# Altium footprint library Connectors.PcbLib: 86 footprints (part 1 of 6)
Each footprint in its own frame and in the unit in brackets; x right, y up, seen from the top. Pads: shape width x height; smd on the part's side, far side on the other; paste and mask are expansions set on the pad; w line width, h text height; cw(c..) or ccw(c..) is an arc to the next point about the centre after c.
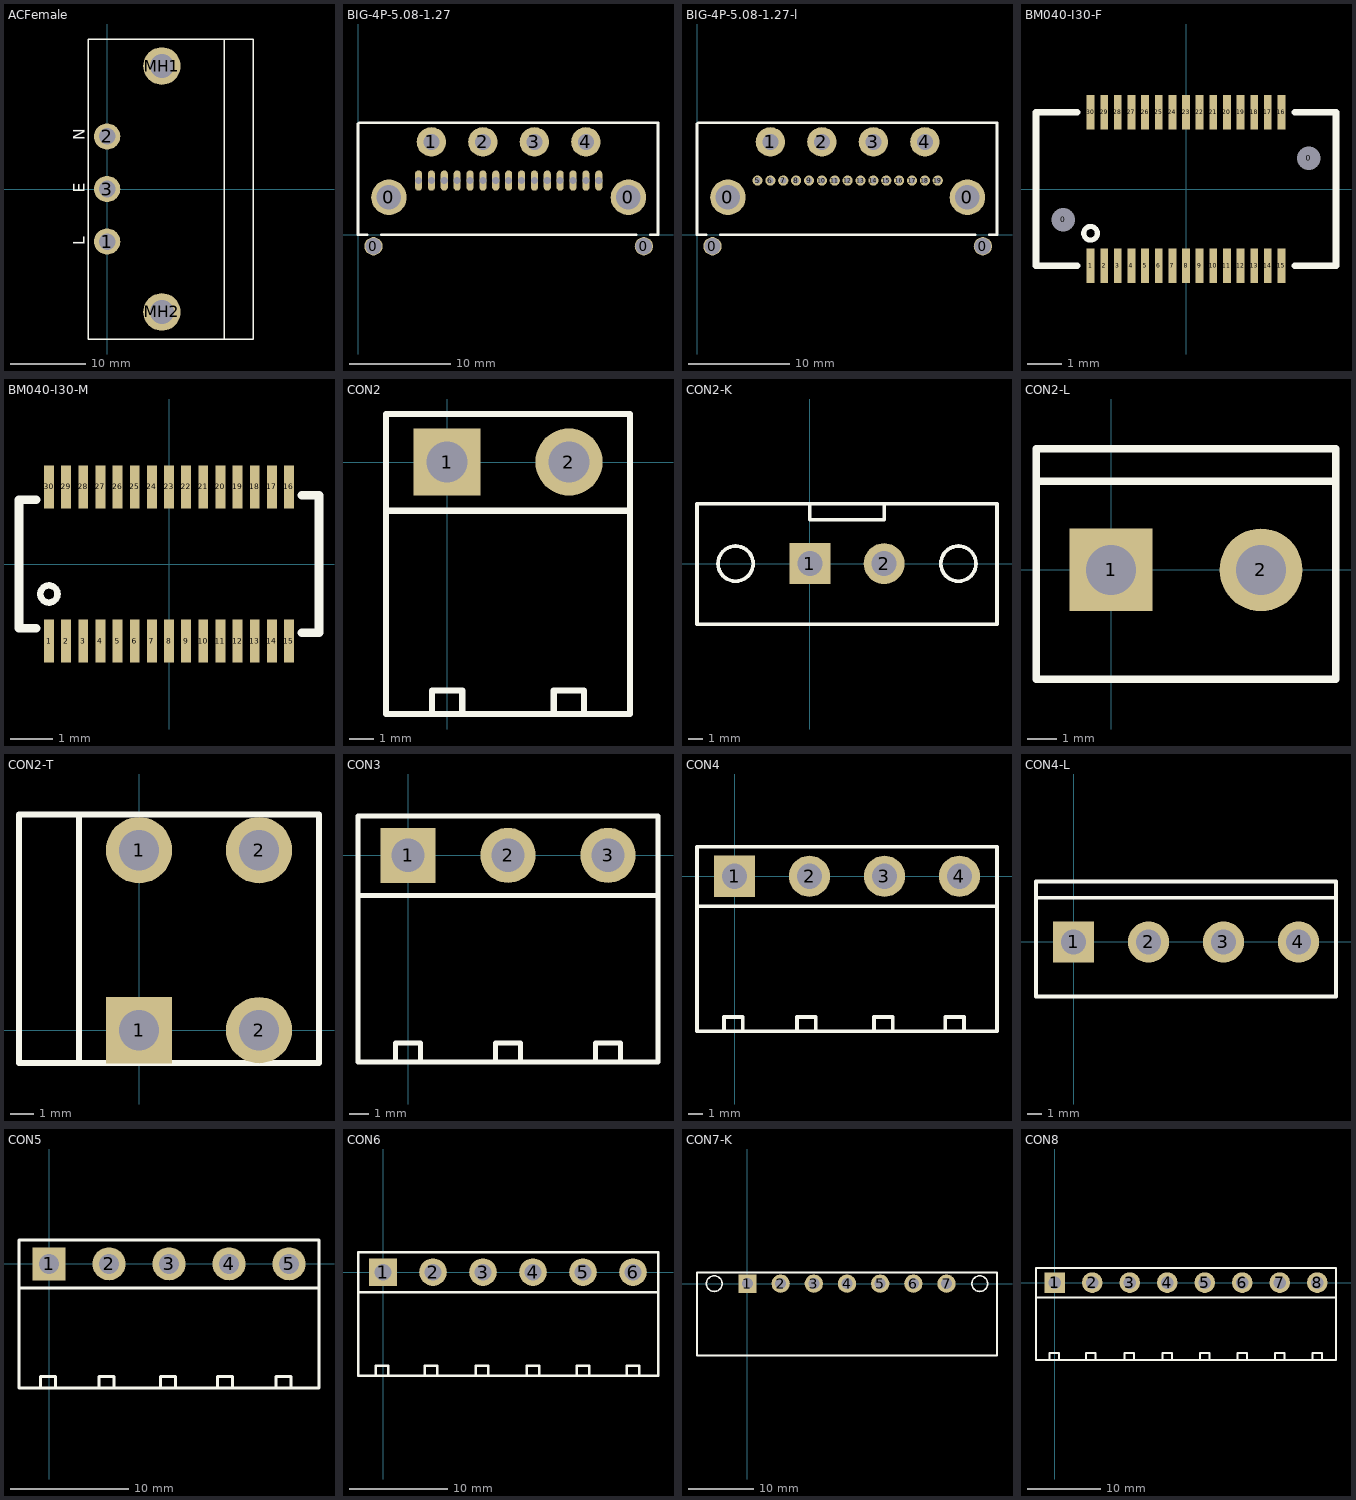
[diagram p0: the footprints below, top view; thin cyan lines are the x and y axes]

## ACFemale [mm] "Plug AC Female"
pads (5):
  round 3.5 hole 2.2: 1(0,-7) 2(0,7) 3(0,0)
  round 5 hole 3.2: MH1(7.3,16.4) MH2(7.3,-16.4)
Top Overlay:
  lines w0.2: 15.6,-20 15.6,20 ; -2.5,-20 19.5,-20 19.5,20 -2.5,20 -2.5,-20
  text "L" at -3,-7.5 h1.5
  text "E" at -3,-0.5 h1.5
  text "N" at -3,6.5 h1.5

## BIG-4P-5.08-1.27 [mm]
height 8
pads (23):
  round 1.8 hole 1.6: 0(1.524,-1.143) 0(28.194,-1.143)
  round 3.5 hole 2.4: 0(3.048,3.683) 0(26.67,3.683)
  round 2.9 hole 1.6: 1(7.239,9.144) 2(12.319,9.144) 3(17.399,9.144) 4(22.479,9.144)
  oval 0.7x2 hole 0.7: 5(5.969,5.334) 6(7.239,5.334) 7(8.509,5.334) 8(9.779,5.334) 9(11.049,5.334) 10(12.319,5.334) 11(13.589,5.334) 12(14.859,5.334) 13(16.129,5.334) 14(17.399,5.334) 15(18.669,5.334) 16(19.939,5.334) 17(21.209,5.334) 18(22.479,5.334) 19(23.749,5.334)
Top Overlay:
  lines w0.254: 0.889,0 0,0 0,10.922 0.127,11.049 29.591,11.049 29.591,0 28.829,0 ; 2.286,0 27.432,0

## BIG-4P-5.08-1.27-l [mm]
height 8
pads (23):
  round 1.8 hole 1.6: 0(1.524,-1.143) 0(28.194,-1.143)
  round 3.5 hole 2.4: 0(3.048,3.683) 0(26.67,3.683)
  round 2.9 hole 1.6: 1(7.239,9.144) 2(12.319,9.144) 3(17.399,9.144) 4(22.479,9.144)
  round 1 hole 0.6: 5(5.969,5.334) 6(7.239,5.334) 7(8.509,5.334) 8(9.779,5.334) 9(11.049,5.334) 10(12.319,5.334) 11(13.589,5.334) 12(14.859,5.334) 13(16.129,5.334) 14(17.399,5.334) 15(18.669,5.334) 16(19.939,5.334) 17(21.209,5.334) 18(22.479,5.334) 19(23.749,5.334)
Top Overlay:
  lines w0.254: 0.889,0 0,0 0,10.922 0.127,11.049 29.591,11.049 29.591,0 28.829,0 ; 2.286,0 27.432,0

## BM040-I30-F [mm] "BM040-I30-F"
pads (32):
  round 0.3 hole 0.7: 0(-3.6,-0.9) 0(3.6,0.9)
  rect 0.23x1 smd: 1(-2.8,-2.25) 2(-2.4,-2.25) 3(-2,-2.25) 4(-1.6,-2.25) 5(-1.2,-2.25) 6(-0.8,-2.25) 7(-0.4,-2.25) 8(0,-2.25) 9(0.4,-2.25) 10(0.8,-2.25) 11(1.2,-2.25) 12(1.6,-2.25) 13(2,-2.25) 14(2.4,-2.25) 15(2.8,-2.25) 16(2.8,2.25) 17(2.4,2.25) 18(2,2.25) 19(1.6,2.25) 20(1.2,2.25) 21(0.8,2.25) 22(0.4,2.25) 23(0,2.25) 24(-0.4,2.25) 25(-0.8,2.25) 26(-1.2,2.25) 27(-1.6,2.25) 28(-2,2.25) 29(-2.4,2.25) 30(-2.8,2.25)
Top Overlay:
  circle w0.15: c-2.8,-1.3 r0.2
  lines w0.2: -3.2,-2.25 -4.4,-2.25 -4.4,2.25 -3.2,2.25 ; 3.2,-2.25 4.4,-2.25 4.4,2.25 3.2,2.25

## BM040-I30-M [mm] "BM040-I30-M"
pads (30):
  rect 0.23x1 smd: 1(-2.8,-1.8) 2(-2.4,-1.8) 3(-2,-1.8) 4(-1.6,-1.8) 5(-1.2,-1.8) 6(-0.8,-1.8) 7(-0.4,-1.8) 8(0,-1.8) 9(0.4,-1.8) 10(0.8,-1.8) 11(1.2,-1.8) 12(1.6,-1.8) 13(2,-1.8) 14(2.4,-1.8) 15(2.8,-1.8) 16(2.8,1.8) 17(2.4,1.8) 18(2,1.8) 19(1.6,1.8) 20(1.2,1.8) 21(0.8,1.8) 22(0.4,1.8) 23(0,1.8) 24(-0.4,1.8) 25(-0.8,1.8) 26(-1.2,1.8) 27(-1.6,1.8) 28(-2,1.8) 29(-2.4,1.8) 30(-2.8,1.8)
Top Overlay:
  circle w0.15: c-2.8,-0.7 r0.2
  lines w0.2: -3.1,-1.5 -3.5,-1.5 -3.5,1.5 -3.1,1.5 ; 3.1,-1.6 3.5,-1.6 3.5,1.6 3.1,1.6

## CON2 [mm] "connector ,2Pin,5.08mm"
pads (2):
  rect 2.8x2.8 hole 1.7: 1(0,0)
  round 2.8 hole 1.7: 2(5.08,0)
Top Overlay:
  lines w0.254: -2.54,-2.032 7.62,-2.032 ; -0.635,-10.5 -0.635,-9.525 0.635,-9.525 0.635,-10.5 ; 4.445,-10.5 4.445,-9.525 5.715,-9.525 5.715,-10.5 ; -2.54,-10.5 7.62,-10.5 7.62,2 -2.54,2 -2.54,-10.5

## CON2-K [mm] "connector ,2Pin,5.08mm"
pads (2):
  rect 2.8x2.8 hole 1.7: 1(0,0)
  round 2.8 hole 1.7: 2(5.08,0)
Top Overlay:
  circle w0.254: c10.16,0 r1.2
  circle w0.254: c-5.08,0 r1.2
  lines w0.254: 0,4.1 0,3 5.08,3 5.08,4.1 ; -7.72,-4.15 12.8,-4.15 12.8,4.1 -7.72,4.1 -7.72,-4.15

## CON2-L [mm] "connector ,2Pin,5.08mm"
pads (2):
  rect 2.8x2.8 hole 1.7: 1(0,0)
  round 2.8 hole 1.7: 2(5.08,0)
Top Overlay:
  lines w0.254: -2.54,3 7.62,3 ; -2.54,-3.7 7.62,-3.7 7.62,4.1 -2.54,4.1 -2.54,-3.7

## CON2-T [mm] "connector ,2Pin,5.08mm"
pads (4):
  rect 2.8x2.8 hole 1.7: 1(0,0)
  round 2.8 hole 1.7: 1(0,7.62) 2(5.08,0) 2(5.08,7.62)
Top Overlay:
  lines w0.254: -2.54,-1.38 -2.54,9.12 ; -5.08,-1.38 -5.08,9.12 7.62,9.12 7.62,-1.38 -5.08,-1.38

## CON3 [mm] "connector ,3Pin,5.08mm"
pads (3):
  rect 2.8x2.8 hole 1.7: 1(0,0)
  round 2.8 hole 1.7: 2(5.08,0) 3(10.16,0)
Top Overlay:
  lines w0.254: -2.54,-2.032 12.7,-2.032 ; -0.635,-10.5 -0.635,-9.525 0.635,-9.525 0.635,-10.5 ; 4.445,-10.5 4.445,-9.525 5.715,-9.525 5.715,-10.5 ; 9.525,-10.5 9.525,-9.525 10.795,-9.525 10.795,-10.5 ; -2.54,-10.5 12.7,-10.5 12.7,2 -2.54,2 -2.54,-10.5

## CON4 [mm] "connector ,4Pin,5.08mm"
pads (4):
  rect 2.8x2.8 hole 1.7: 1(0,0)
  round 2.8 hole 1.7: 2(5.08,0) 3(10.16,0) 4(15.24,0)
Top Overlay:
  lines w0.254: -2.54,-2.032 17.78,-2.032 ; -0.715,-10.5 -0.715,-9.525 0.555,-9.525 0.555,-10.5 ; 4.238,-10.5 4.238,-9.525 5.508,-9.525 5.508,-10.5 ; 9.445,-10.5 9.445,-9.525 10.715,-9.525 10.715,-10.5 ; 14.271,-10.5 14.271,-9.525 15.541,-9.525 15.541,-10.5 ; -2.54,-10.5 -2.54,2 17.78,2 17.78,-10.5 -2.54,-10.5

## CON4-L [mm]
pads (4):
  rect 2.8x2.8 hole 1.7: 1(0,0)
  round 2.8 hole 1.7: 2(5.08,0) 3(10.16,0) 4(15.24,0)
Top Overlay:
  lines w0.254: -2.54,3 17.78,3 ; -2.54,-3.7 17.78,-3.7 17.78,4.1 -2.54,4.1 -2.54,-3.7

## CON5 [mm] "connector ,5Pin,5.08mm"
pads (5):
  rect 2.8x2.8 hole 1.7: 1(0,0)
  round 2.8 hole 1.7: 2(5.08,0) 3(10.16,0) 4(15.24,0) 5(20.32,0)
Top Overlay:
  lines w0.254: -2.54,-2.032 22.86,-2.032 ; -0.715,-10.5 -0.715,-9.525 0.555,-9.525 0.555,-10.5 ; 4.238,-10.5 4.238,-9.525 5.508,-9.525 5.508,-10.5 ; 9.445,-10.5 9.445,-9.525 10.715,-9.525 10.715,-10.5 ; 14.271,-10.5 14.271,-9.525 15.541,-9.525 15.541,-10.5 ; 19.224,-10.5 19.224,-9.525 20.494,-9.525 20.494,-10.5 ; -2.54,-10.5 -2.54,2 22.86,2 22.86,-10.5 -2.54,-10.5

## CON6 [mm] "connector ,6Pin,5.08mm"
pads (6):
  rect 2.8x2.8 hole 1.7: 1(0,0)
  round 2.8 hole 1.7: 2(5.08,0) 3(10.16,0) 4(15.24,0) 5(20.32,0) 6(25.4,0)
Top Overlay:
  lines w0.254: -2.54,-2.032 27.94,-2.032 ; -0.715,-10.5 -0.715,-9.525 0.555,-9.525 0.555,-10.5 ; 4.238,-10.5 4.238,-9.525 5.508,-9.525 5.508,-10.5 ; 9.445,-10.5 9.445,-9.525 10.715,-9.525 10.715,-10.5 ; 14.605,-10.5 14.605,-9.525 15.875,-9.525 15.875,-10.5 ; 19.685,-10.5 19.685,-9.525 20.955,-9.525 20.955,-10.5 ; 24.765,-10.5 24.765,-9.525 26.035,-9.525 26.035,-10.5 ; -2.54,-10.5 -2.54,2 27.94,2 27.94,-10.5 -2.54,-10.5

## CON7-K [mm] "connector ,7Pin,5.08mm"
pads (7):
  rect 2.8x2.8 hole 1.7: 1(0,0)
  round 2.8 hole 1.7: 2(5.08,0) 3(10.16,0) 4(15.24,0) 5(20.32,0) 6(25.4,0) 7(30.48,0)
Top Overlay:
  circle w0.254: c35.56,0 r1.2
  circle w0.254: c-5.08,0 r1.2
  lines w0.254: -7.72,-11 38.2,-11 38.2,1.7 -7.72,1.7 -7.72,-11

## CON8 [mm] "connector ,8Pin,5.08mm"
pads (8):
  rect 2.8x2.8 hole 1.7: 1(0,0)
  round 2.8 hole 1.7: 2(5.08,0) 3(10.16,0) 4(15.24,0) 5(20.32,0) 6(25.4,0) 7(30.48,0) 8(35.56,0)
Top Overlay:
  lines w0.254: -2.54,-2.032 38.1,-2.032 ; -0.715,-10.5 -0.715,-9.525 0.555,-9.525 0.555,-10.5 ; 4.238,-10.5 4.238,-9.525 5.508,-9.525 5.508,-10.5 ; 9.445,-10.5 9.445,-9.525 10.715,-9.525 10.715,-10.5 ; 14.605,-10.5 14.605,-9.525 15.875,-9.525 15.875,-10.5 ; 19.685,-10.5 19.685,-9.525 20.955,-9.525 20.955,-10.5 ; 24.765,-10.5 24.765,-9.525 26.035,-9.525 26.035,-10.5 ; 29.845,-10.5 29.845,-9.525 31.115,-9.525 31.115,-10.5 ; 34.925,-10.5 34.925,-9.525 36.195,-9.525 36.195,-10.5 ; -2.54,-10.5 -2.54,2 38.1,2 38.1,-10.5 -2.54,-10.5